# Altium schematic symbol library MFL LOW PWR XFMR.SchLib: 1 symbol
Pins are listed as number, name and electrical type; pins without a type are passive.

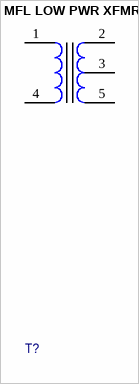
[diagram p0: symbol MFL LOW PWR XFMR]

## MFL LOW PWR XFMR
designator T?  (value not drawn)
pins: 1, 2, 3, 4, 5